# Altium integrated library BC1_3N.IntLib: 1 symbol
Pins are listed as number, name and electrical type; pins without a type are passive.

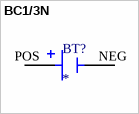
[diagram p0: symbol BC1/3N]

## BC1/3N
designator BT?
Holder Battery 1/3n Cell Pc Mnt; MP: BC1/3N; Package: None; Price: None; Value: *; Availability: Unavailable
footprint BAT_BC1/3N
pins: NEG, POS